# EAGLE library part OV7670 (library OV7670 lib)
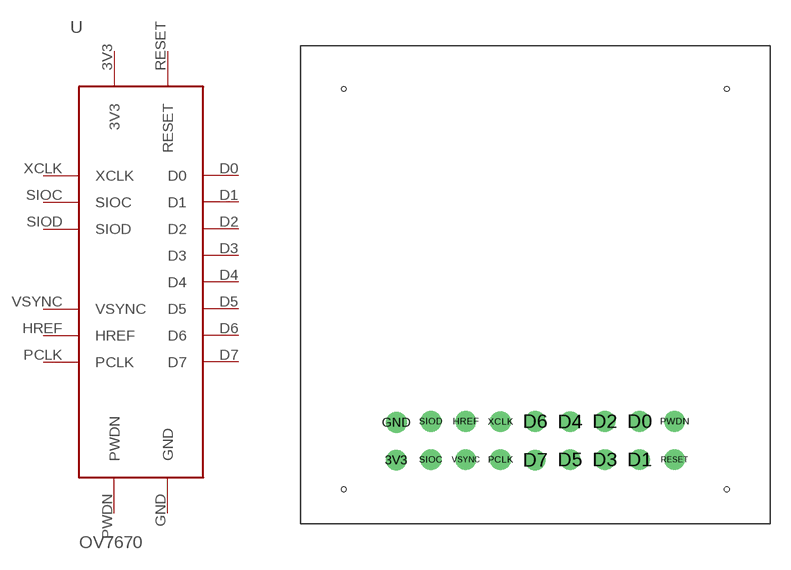
[diagram p0: symbol with the pads of OV7670; footprint OV7670]

Designator prefix -

## OV7670  [OV7670]
3V3  3V3
D0  D0
D1  D1
D2  D2
D3  D3
D4  D4
D5  D5
D6  D6
D7  D7
GND  GND
HREF  HREF
PCLK  PCLK
PWDN  PWDN
RESET  RESET
SIOC  SIOC
SIOD  SIOD
VSYNC  VSYNC
XCLK  XCLK

## Footprint OV7670 (pad centres in mm)
drill 1: 3V3 -6.35,-18.186; D0 11.43,-15.367; D1 11.43,-18.161; D2 8.89,-15.367; D3 8.89,-18.161; D4 6.35,-15.392; D5 6.35,-18.161; D6 3.81,-15.367; D7 3.81,-18.186; GND -6.325,-15.443; HREF -1.27,-15.367; PCLK 1.27,-18.161; PWDN 13.97,-15.367; RESET 13.97,-18.161; SIOC -3.81,-18.161; SIOD -3.81,-15.367; VSYNC -1.27,-18.161; XCLK 1.27,-15.392
hole 0.35 at -10.16,-20.32
hole 0.35 at -10.16,8.89
hole 0.35 at 17.78,8.89
hole 0.35 at 17.78,-20.32